# Altium footprint library SGX7OX.PcbLib: 1 footprints
Each footprint in its own frame and in the unit in brackets; x right, y up, seen from the top. Pads: shape width x height; smd on the part's side, far side on the other; paste and mask are expansions set on the pad; w line width, h text height; cw(c..) or ccw(c..) is an arc to the next point about the centre after c.
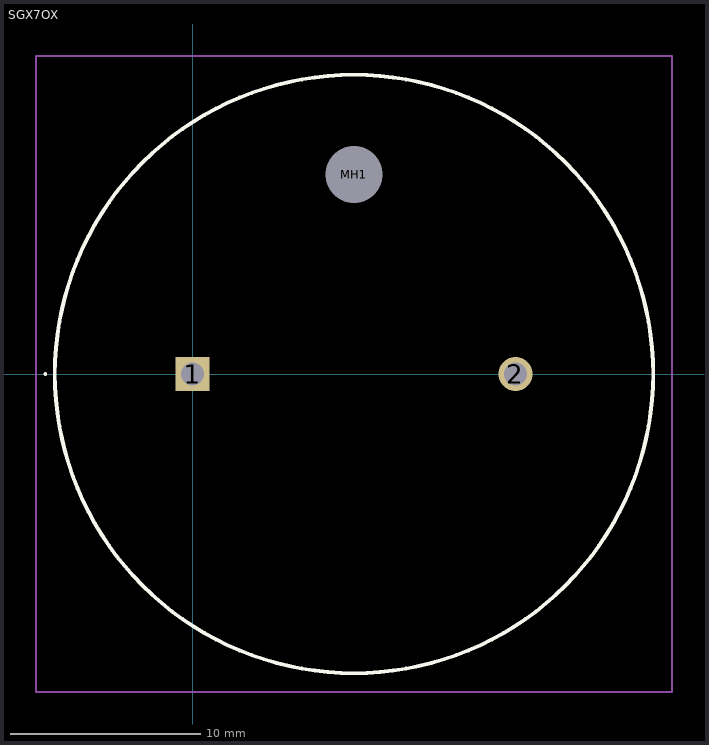
[diagram p0: the footprint, top view; thin cyan lines are the x and y axes]

## SGX7OX [mm]
pads (3):
  rect 1.8x1.8 hole 1.2: 1(0,0)
  round 1.8 hole 1.2: 2(17,0)
  round 1.5 hole 3 unplated: MH1(8.5,10.5)
Top Overlay:
  lines w0.1: -7.8,0 -7.8,0 ; -7.8,0 ccw(c-7.75,0) -7.7,0 ; -7.8,0 cw(c-7.75,0) -7.7,0 ; -7.7,0 -7.7,0
  lines w0.2: 8.5,-15.75 cw(c8.5,0) 8.5,15.75 ; 8.5,-15.75 8.5,-15.75 ; 8.5,-15.75 ccw(c8.5,0) 8.5,15.75 ; 8.5,15.75 8.5,15.75
Mechanical 15:
  lines w0.1: 8.5,-15.75 cw(c8.5,0) 8.5,15.75 ; 8.5,-15.75 8.5,-15.75 ; 8.5,-15.75 ccw(c8.5,0) 8.5,15.75 ; 8.5,15.75 8.5,15.75
Mechanical 20:
  lines w0.1: -8.25,-16.75 25.25,-16.75 25.25,16.75 -8.25,16.75 -8.25,-16.75